# Altium schematic symbol library SCR38_350.Schlib: 1 symbol
Pins are listed as number, name and electrical type; pins without a type are passive.

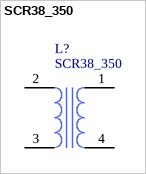
[diagram p0: symbol SCR38_350]

## SCR38_350
designator L?
pins: 1, 2, 3, 4